# Altium footprint library CSTCC8M00G53-R0.PcbLib: 4 footprints
Each footprint in its own frame and in the unit in brackets; x right, y up, seen from the top. Pads: shape width x height; smd on the part's side, far side on the other; paste and mask are expansions set on the pad; w line width, h text height; cw(c..) or ccw(c..) is an arc to the next point about the centre after c.
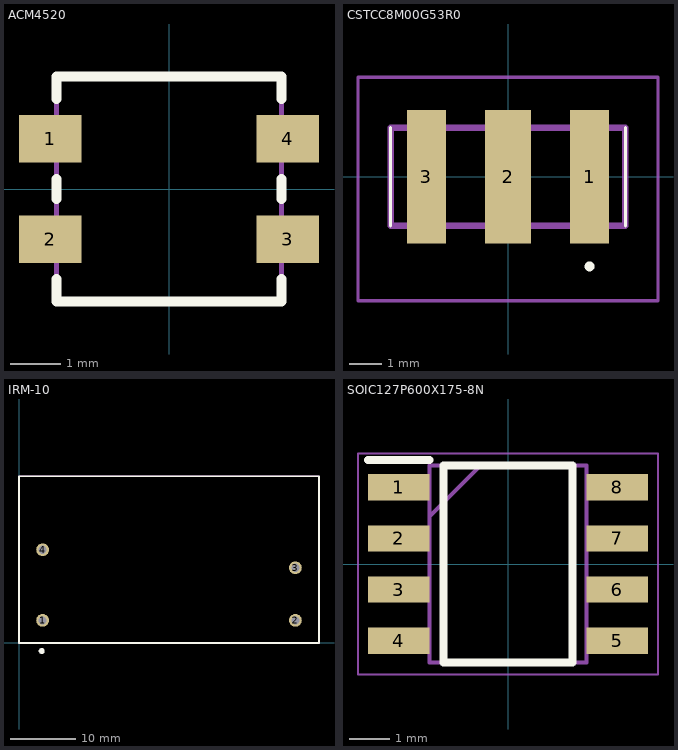
[diagram p0: the footprints below, top view; thin cyan lines are the x and y axes]

## ACM4520 [mm]
pads (4):
  rect 1.25x0.95 smd: 1(-2.375,1) 2(-2.375,-1) 3(2.375,-1) 4(2.375,1)
Top Overlay:
  lines w0.2: -2.25,-1.8 -2.25,-2.25 2.25,-2.25 2.25,-1.8 ; -2.25,-0.2 -2.25,0.2 ; -2.25,1.8 -2.25,2.25 2.25,2.25 2.25,1.8 ; 2.25,-0.2 2.25,0.2
Mechanical 13:
  lines w0.1: -2.25,-2.25 2.25,-2.25 2.25,2.25 -2.25,2.25 -2.25,-2.25

## CSTCC8M00G53R0 [mm]
pads (3):
  rect 1.2x4.1 smd: 1(2.5,0) 3(-2.5,0)
  rect 1.4x4.1 smd: 2(0,0)
Top Overlay:
  lines w0.1: -3.6,-1.5 -3.6,1.5 -3.6,-1.5 ; 3.6,-1.5 3.6,1.5 3.6,-1.5
  lines w0.2: 2.5,-2.8 cw(c2.5,-2.75) 2.5,-2.7 ; 2.5,-2.8 ccw(c2.5,-2.75) 2.5,-2.7 ; 2.5,-2.8 cw(c2.5,-2.75) 2.5,-2.7
Mechanical 13:
  lines w0.2: -3.6,-1.5 -3.6,1.5 3.6,1.5 3.6,-1.5 -3.6,-1.5
Mechanical 15:
  lines w0.1: -4.6,-3.8 -4.6,3.05 4.6,3.05 4.6,-3.8 -4.6,-3.8

## IRM-10 [mm]
pads (4):
  round 1.95 hole 1.24: 1(3.6,3.45) 2(42.1,3.45) 3(42.1,11.45) 4(3.6,14.2)
Top Overlay:
  circle w0.7: c3.461,-1.227 r0.111
  lines w0.254: 0,0 45.7,0 45.7,25.4 0,25.4 0,0
Mechanical 13:
  lines w0.254: 0,0 0,25.4 45.7,25.4 45.7,0 0,0

## SOIC127P600X175-8N [mm]
pads (8):
  rect 1.525x0.65 smd: 1(-2.712,1.905) 2(-2.712,0.635) 3(-2.712,-0.635) 4(-2.712,-1.905) 5(2.712,-1.905) 6(2.712,-0.635) 7(2.712,0.635) 8(2.712,1.905)
Top Overlay:
  lines w0.2: -3.475,2.58 -1.95,2.58 ; -1.6,-2.45 1.6,-2.45 1.6,2.45 -1.6,2.45 -1.6,-2.45
Mechanical 13:
  lines w0.1: -1.95,1.18 -0.68,2.45 ; -1.95,-2.45 1.95,-2.45 1.95,2.45 -1.95,2.45 -1.95,-2.45
Mechanical 15:
  lines w0.05: -3.725,-2.75 3.725,-2.75 3.725,2.75 -3.725,2.75 -3.725,-2.75
3D body "NE555DR.stp": height 1.75, standoff 0, extent -3,-2.45 3,2.45